# Altium footprint library G7L2AXLDC12.PcbLib: 1 footprints
Each footprint in its own frame and in the unit in brackets; x right, y up, seen from the top. Pads: shape width x height; smd on the part's side, far side on the other; paste and mask are expansions set on the pad; w line width, h text height; cw(c..) or ccw(c..) is an arc to the next point about the centre after c.
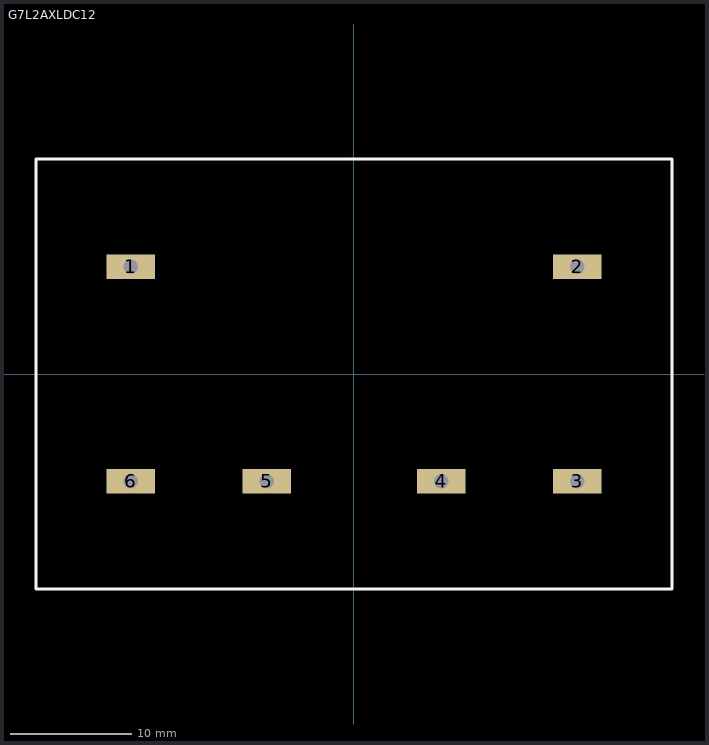
[diagram p0: the footprint, top view; thin cyan lines are the x and y axes]

## G7L2AXLDC12 [mm]
pads (6):
  rect 4x2 hole 1.2 square: 1(-18.4,8.85) 2(18.4,8.85) 3(18.4,-8.85) 4(7.2,-8.85) 5(-7.2,-8.85) 6(-18.4,-8.85)
Top Overlay:
  lines w0.254: -26.25,-17.75 26.25,-17.75 26.25,17.75 -26.25,17.75 -26.25,-17.75
Mechanical 9:
  text "'.Designator'" at -26.25,-17.75 h3
3D body: height 41, standoff 0, extent -26.306,-17.75 26.25,17.75